# Altium schematic symbol library Schlib1.SchLib: 18 symbols
Pins are listed as number, name and electrical type; pins without a type are passive.

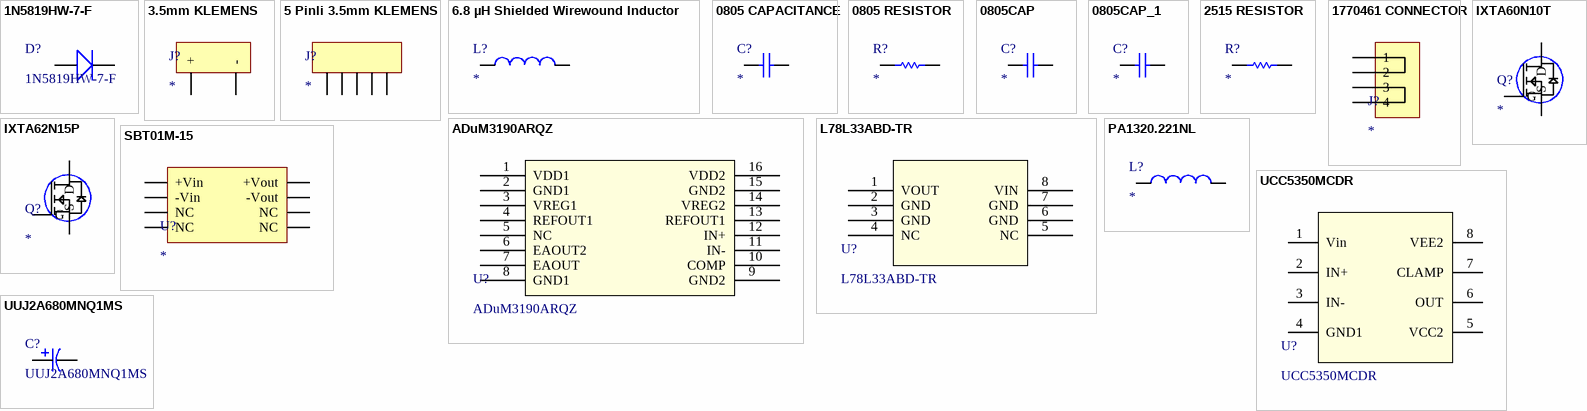
[diagram p0: symbols 1N5819HW-7-F to UUJ2A680MNQ1MS]

## 1N5819HW-7-F
designator D?
40V 1A DIODE SCHOTTKY
footprint 1N5819HW-7-F_DIO-M
pins: 1, 2

## 3.5mm KLEMENS
designator J?
footprint 3PIN 3.5mm KLEMENS
pins: 1 +, 2 -

## 5 Pinli 3.5mm KLEMENS
designator J?
footprint 5PIN 35.MM KLEMENS
pins: 1, 2, 3, 4, 5

## 6.8 µH Shielded Wirewound Inductor
designator L?
6.8UH 39A 3.3 MOHM SMD
footprint MPX1D2213L6R8
pins: 1, 2

## 0805 CAPACITANCE
designator C?
4.7UF 100V CAP CER  X7S 0805
footprint 0805 CAPACITOR
pins: 1, 2

## 0805 RESISTOR
designator R?
1K OHM 16V
footprint 0805 RESISTOR
pins: 1, 2

## 0805CAP
designator C?
1UF 100V CAP CER  X7S 0805
footprint 0805 CAPACITOR
pins: 1, 2

## 0805CAP_1
designator C?
0.1UF 100V CAP CER X5R 0402
footprint 0805 CAPACITOR
pins: 1, 2

## 2515 RESISTOR
designator R?
10 OHM RES SMD 10 OHM 5% 1W 2512
footprint 2512 RESISTOR
pins: 1, 2

## 1770461 CONNECTOR
designator J?
TERM BLK 2P SIDE ENTRY
footprint CONN_1770461
pins: 1, 2, 3, 4

## ADuM3190ARQZ
designator U?
IC ISOLATOR 16QSOP
footprint ADuM3190ARQZ
pins: 1 VDD1, 2 GND1, 3 VREG1, 4 REFOUT1, 5 NC, 6 EAOUT2, 7 EAOUT, 8 GND1, 9 GND2, 10 COMP, 11 IN-, 12 IN+, 13 REFOUT1, 14 VREG2, 15 GND2, 16 VDD2

## IXTA60N10T
designator Q?
N-Channel 100 V 60A (Tc) 176W (Tc) Surface Mount TO-263AA
footprint IXTA62N15P
pins: 1 G, 2 D, 3 S

## IXTA62N15P
designator Q?
N-Channel 150 V 62A (Tc) 350W (Tc) Surface Mount TO-263AA
footprint IXTA62N15P
pins: 1 G, 2 D, 3 S

## L78L33ABD-TR
designator U?
IC REG LINEAR 3.3V 100MA 8SO
footprint L78L33ABD-TR
pins: 1 VOUT, 2 GND, 3 GND, 4 NC, 5 NC, 6 GND, 7 GND, 8 VIN

## PA1320.221NL
designator L?
PA1320.221NL
footprint PA1320.221NL
pins: 1, 2

## SBT01M-15
designator U?
footprint SBT01M-15
pins: 1 -Vin, 2 +Vin, 3 NC, 4 -Vout, 5 +Vout, 6 NC, 7 NC, 8 NC

## UCC5350MCDR
designator U?
No Description Available
footprint UCC5350MCDR
pins: 1 Vin, 2 IN+, 3 IN-, 4 GND1, 5 VCC2, 6 OUT, 7 CLAMP, 8 VEE2

## UUJ2A680MNQ1MS
designator C?
68µF 100V Aluminum Electrolytic Capacitors
footprint UUJ2A680MNQ1MS
pins: 1, 2